# EAGLE library part SPECTROMETER-AS72652/3 (library FlashPCB_Sensors)
AS72652 / AS72653 - Smart 18-Channel VIS to NIR Spectral_ ID 3-Sensor Chipset with Electronic Shutter Technical Specifications: Wavelength: 410nm to 940nm with FWHM of 20nm Requires use of firmware loaded into serial flash via UART Component Search: AS72652 <https://www.flashpcb.com/components> Datasheet: AS7265x Smart 18-Channel VIS to NIR Spectral_ ID 3-Sensor Chipset with Electronic Shutter <https://ams.com/documents/20143/36005/AS7265x_DS000612_1-00.pdf>
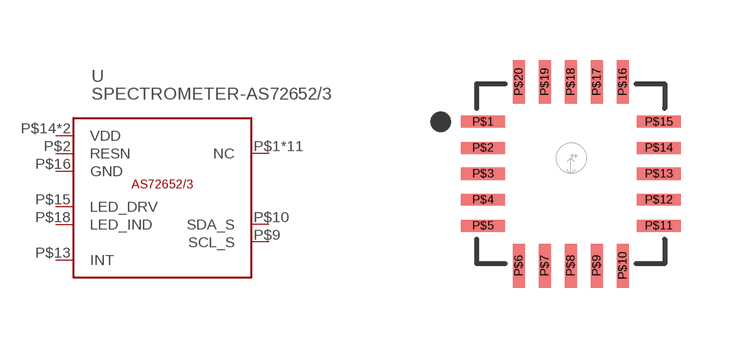
[diagram p23: symbol with the pads of 20-LGA-AS7XXX; footprint 20-LGA-AS7XXX]

Designator prefix U

## SPECTROMETER-AS72652/3  [20-LGA-AS7XXX]
P$1  NC  nc
P$2  RESN
P$3  NC  nc
P$4  NC  nc
P$5  NC  nc
P$6  NC  nc
P$7  NC  nc
P$8  NC  nc
P$9  SCL_S
P$10  SDA_S
P$11  NC  nc
P$12  NC  nc
P$13  INT
P$14  VDD  pwr
P$15  LED_DRV
P$16  GND  pwr
P$17  VDD  pwr
P$18  LED_IND
P$19  NC  nc
P$20  NC  nc

## Footprint 20-LGA-AS7XXX (pad centres in mm)
smd 1.1 x 0.3: P$1 -2.2,1.3; P$2 -2.2,0.65; P$3 -2.2,0; P$4 -2.2,-0.65; P$5 -2.2,-1.3; P$11 2.2,-1.3; P$12 2.2,-0.65; P$13 2.2,0; P$14 2.2,0.65; P$15 2.2,1.3
smd 0.3 x 1.1: P$6 -1.3,-2.3; P$7 -0.65,-2.3; P$8 0,-2.3; P$9 0.65,-2.3; P$10 1.3,-2.3; P$16 1.3,2.3; P$17 0.65,2.3; P$18 0,2.3; P$19 -0.65,2.3; P$20 -1.3,2.3